# EAGLE library part B10B-PUDSS-1 (library con-jst-pud)
JST connector, PUD series, 2.0mm spacing, crimp style, wire-to-board, 10 pin, top entry (with boss)
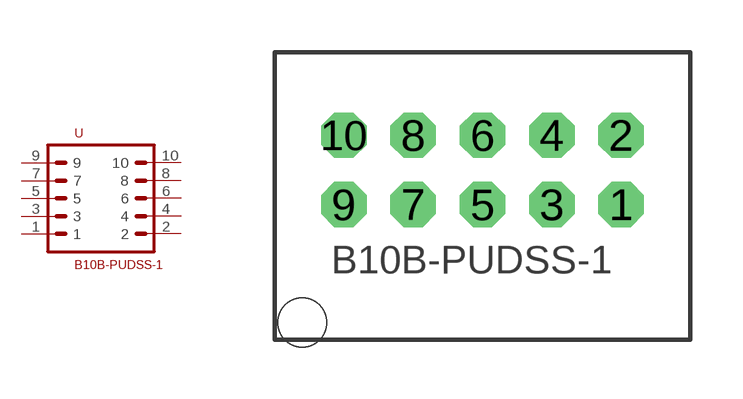
[diagram p9: symbol with the pads of PUD_10_PIN_TOP_ENTRY; footprint PUD_10_PIN_TOP_ENTRY]

Designator prefix -

## B10B-PUDSS-1 (DIGIKEY: 455-2500-ND; MF: JST; MPN: B10B-PUDSS-1)  [PUD_10_PIN_TOP_ENTRY]
1  1
2  2
3  3
4  4
5  5
6  6
7  7
8  8
9  9
10  10

## Footprint PUD_10_PIN_TOP_ENTRY (pad centres in mm)
drill 0.8 octagon: 1 4,0; 2 4,2; 3 2,0; 4 2,2; 5 0,0; 6 0,2; 7 -2,0; 8 -2,2; 9 -4,0; 10 -4,2
hole 1.4 at -5.2,-3.4